# Altium integrated library o149086v243 Altium_WE-XTAL (rev19c).IntLib: 299 symbols (part 2 of 5)
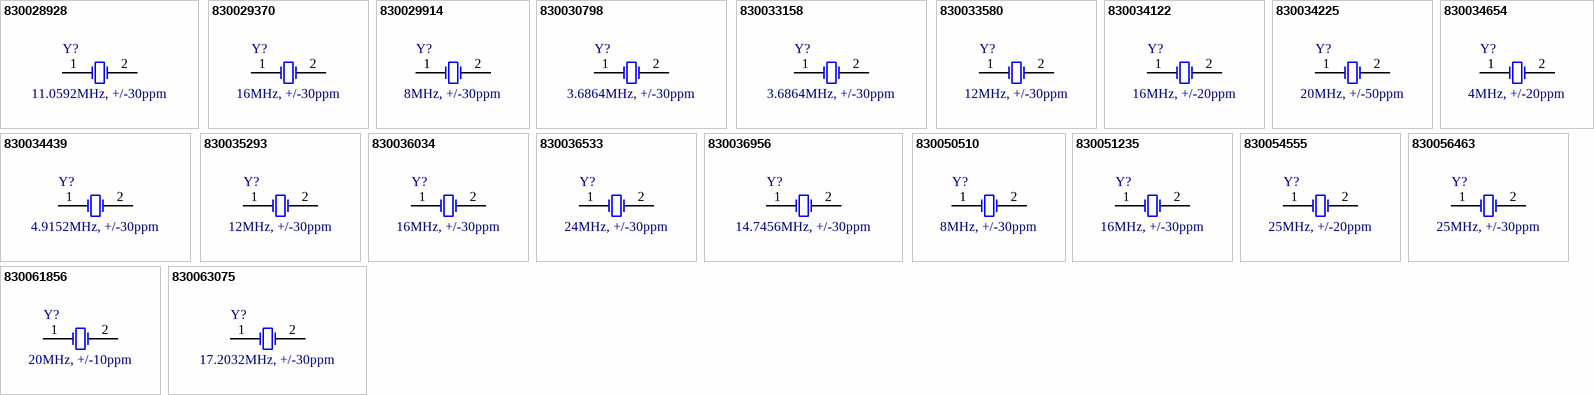
[diagram p17: symbols 830028928 to 830063075]

## 830029370
designator Y?, comment 16MHz, +/-30ppm
WE-XTAL Quartz Crystal, SMT, HC49/4HSMX, 16MHz, +/-30ppm; Part Number: 830029370; Frequency Stability: +/-50ppm; Load Capacitance: 18pF; ComponentLink1Description: Manufacturer; ComponentLink1URL: http://www.we-online.de; ComponentLink2Description: Datasheet; ComponentLink2URL: https://katalog.we-online.com/pbs/datasheet/830029370.pdf; Operating Temperature: -20 to +70degC; Packaging: Tape and Reel; Published Date: November 2019; Size: HC49/4HSMX; Frequency: 16MHz; Frequency Tolerance: +/-30ppm; Mounting Technology: SMT; Publisher: Wurth Elektronik
footprint WE-XTAL_HC49/4HSMX
pins: 1 OSC1, 2 OSC2

## 830029914
designator Y?, comment 8MHz, +/-30ppm
WE-XTAL Quartz Crystal, SMT, HC49/4HSMX, 8MHz, +/-30ppm; Part Number: 830029914; Frequency Stability: +/-50ppm; Load Capacitance: 16pF; ComponentLink1Description: Manufacturer; ComponentLink1URL: http://www.we-online.de; ComponentLink2Description: Datasheet; ComponentLink2URL: https://katalog.we-online.com/pbs/datasheet/830029914.pdf; Operating Temperature: -40 to +85degC; Packaging: Tape and Reel; Published Date: November 2019; Size: HC49/4HSMX; Frequency: 8MHz; Frequency Tolerance: +/-30ppm; Mounting Technology: SMT; Publisher: Wurth Elektronik
footprint WE-XTAL_HC49/4HSMX
pins: 1 OSC1, 2 OSC2

## 830030798
designator Y?, comment 3.6864MHz, +/-30ppm
WE-XTAL Quartz Crystal, SMT, HC49/4HSMX, 3.6864MHz, +/-30ppm; Part Number: 830030798; Frequency Stability: +/-50ppm; Load Capacitance: 16pF; ComponentLink1Description: Manufacturer; ComponentLink1URL: http://www.we-online.de; ComponentLink2Description: Datasheet; ComponentLink2URL: https://katalog.we-online.com/pbs/datasheet/830030798.pdf; Operating Temperature: -40 to +85degC; Packaging: Tape and Reel; Published Date: November 2019; Size: HC49/4HSMX; Frequency: 3.6864MHz; Frequency Tolerance: +/-30ppm; Mounting Technology: SMT; Publisher: Wurth Elektronik
footprint WE-XTAL_HC49/4HSMX
pins: 1 OSC1, 2 OSC2

## 830033158
designator Y?, comment 3.6864MHz, +/-30ppm
WE-XTAL Quartz Crystal, SMT, HC49/4HSMX, 3.6864MHz, +/-30ppm; Part Number: 830033158; Frequency Stability: +/-50ppm; Load Capacitance: 18pF; ComponentLink1Description: Manufacturer; ComponentLink1URL: http://www.we-online.de; ComponentLink2Description: Datasheet; ComponentLink2URL: https://katalog.we-online.com/pbs/datasheet/830033158.pdf; Operating Temperature: -20 to +70degC; Packaging: Tape and Reel; Published Date: November 2019; Size: HC49/4HSMX; Frequency: 3.6864MHz; Frequency Tolerance: +/-30ppm; Mounting Technology: SMT; Publisher: Wurth Elektronik
footprint WE-XTAL_HC49/4HSMX
pins: 1 OSC1, 2 OSC2

## 830033580
designator Y?, comment 12MHz, +/-30ppm
WE-XTAL Quartz Crystal, SMT, HC49/4HSMX, 12MHz, +/-30ppm; Part Number: 830033580; Frequency Stability: +/-50ppm; Load Capacitance: 18pF; ComponentLink1Description: Manufacturer; ComponentLink1URL: http://www.we-online.de; ComponentLink2Description: Datasheet; ComponentLink2URL: https://katalog.we-online.com/pbs/datasheet/830033580.pdf; Operating Temperature: -20 to +70degC; Packaging: Tape and Reel; Published Date: November 2019; Size: HC49/4HSMX; Frequency: 12MHz; Frequency Tolerance: +/-30ppm; Mounting Technology: SMT; Publisher: Wurth Elektronik
footprint WE-XTAL_HC49/4HSMX
pins: 1 OSC1, 2 OSC2

## 830034122
designator Y?, comment 16MHz, +/-20ppm
WE-XTAL Quartz Crystal, SMT, HC49/4HSMX, 16MHz, +/-20ppm; Part Number: 830034122; Load Capacitance: 12pF; ComponentLink1Description: Manufacturer; ComponentLink1URL: http://www.we-online.de; ComponentLink2Description: Datasheet; ComponentLink2URL: https://katalog.we-online.com/pbs/datasheet/830034122.pdf; Operating Temperature: -20 to +70degC; Packaging: Tape and Reel; Published Date: November 2019; Size: HC49/4HSMX; Frequency Stability: +/-20ppm; Frequency: 16MHz; Frequency Tolerance: +/-20ppm; Mounting Technology: SMT; Publisher: Wurth Elektronik
footprint WE-XTAL_HC49/4HSMX
pins: 1 OSC1, 2 OSC2

## 830034225
designator Y?, comment 20MHz, +/-50ppm
WE-XTAL Quartz Crystal, SMT, HC49/4HSMX, 20MHz, +/-50ppm; Part Number: 830034225; Load Capacitance: 16pF; ComponentLink1Description: Manufacturer; ComponentLink1URL: http://www.we-online.de; ComponentLink2Description: Datasheet; ComponentLink2URL: https://katalog.we-online.com/pbs/datasheet/830034225.pdf; Operating Temperature: -30 to +80degC; Packaging: Tape and Reel; Published Date: November 2019; Size: HC49/4HSMX; Frequency Stability: +/-50ppm; Frequency: 20MHz; Frequency Tolerance: +/-50ppm; Mounting Technology: SMT; Publisher: Wurth Elektronik
footprint WE-XTAL_HC49/4HSMX
pins: 1 OSC1, 2 OSC2

## 830034439
designator Y?, comment 4.9152MHz, +/-30ppm
WE-XTAL Quartz Crystal, SMT, HC49/4HSMX, 4.9152MHz, +/-30ppm; Part Number: 830034439; Frequency Stability: +/-50ppm; Load Capacitance: 16pF; ComponentLink1Description: Manufacturer; ComponentLink1URL: http://www.we-online.de; ComponentLink2Description: Datasheet; ComponentLink2URL: https://katalog.we-online.com/pbs/datasheet/830034439.pdf; Operating Temperature: -20 to +70degC; Packaging: Tape and Reel; Published Date: November 2019; Size: HC49/4HSMX; Frequency: 4.9152MHz; Frequency Tolerance: +/-30ppm; Mounting Technology: SMT; Publisher: Wurth Elektronik
footprint WE-XTAL_HC49/4HSMX
pins: 1 OSC1, 2 OSC2

## 830034654
designator Y?, comment 4MHz, +/-20ppm
WE-XTAL Quartz Crystal, SMT, HC49/4HSMX, 4MHz, +/-20ppm; Part Number: 830034654; Frequency Stability: +/-50ppm; Load Capacitance: 18pF; ComponentLink1Description: Manufacturer; ComponentLink1URL: http://www.we-online.de; ComponentLink2Description: Datasheet; ComponentLink2URL: https://katalog.we-online.com/pbs/datasheet/830034654.pdf; Operating Temperature: -20 to +70degC; Packaging: Tape and Reel; Published Date: November 2019; Size: HC49/4HSMX; Frequency: 4MHz; Frequency Tolerance: +/-20ppm; Mounting Technology: SMT; Publisher: Wurth Elektronik
footprint WE-XTAL_HC49/4HSMX
pins: 1 OSC1, 2 OSC2

## 830035293
designator Y?, comment 12MHz, +/-30ppm
WE-XTAL Quartz Crystal, SMT, HC49/4HSMX, 12MHz, +/-30ppm; Part Number: 830035293; Frequency Stability: +/-50ppm; Load Capacitance: 16pF; ComponentLink1Description: Manufacturer; ComponentLink1URL: http://www.we-online.de; ComponentLink2Description: Datasheet; ComponentLink2URL: https://katalog.we-online.com/pbs/datasheet/830035293.pdf; Operating Temperature: -40 to +85degC; Packaging: Tape and Reel; Published Date: November 2019; Size: HC49/4HSMX; Frequency: 12MHz; Frequency Tolerance: +/-30ppm; Mounting Technology: SMT; Publisher: Wurth Elektronik
footprint WE-XTAL_HC49/4HSMX
pins: 1 OSC1, 2 OSC2

## 830036034
designator Y?, comment 16MHz, +/-30ppm
WE-XTAL Quartz Crystal, SMT, HC49/4HSMX, 16MHz, +/-30ppm; Part Number: 830036034; Frequency Stability: +/-50ppm; Load Capacitance: 16pF; ComponentLink1Description: Manufacturer; ComponentLink1URL: http://www.we-online.de; ComponentLink2Description: Datasheet; ComponentLink2URL: https://katalog.we-online.com/pbs/datasheet/830036034.pdf; Operating Temperature: -40 to +85degC; Packaging: Tape and Reel; Published Date: November 2019; Size: HC49/4HSMX; Frequency: 16MHz; Frequency Tolerance: +/-30ppm; Mounting Technology: SMT; Publisher: Wurth Elektronik
footprint WE-XTAL_HC49/4HSMX
pins: 1 OSC1, 2 OSC2

## 830036533
designator Y?, comment 24MHz, +/-30ppm
WE-XTAL Quartz Crystal, SMT, HC49/4HSMX, 24MHz, +/-30ppm; Part Number: 830036533; Frequency Stability: +/-50ppm; Load Capacitance: 18pF; ComponentLink1Description: Manufacturer; ComponentLink1URL: http://www.we-online.de; ComponentLink2Description: Datasheet; ComponentLink2URL: https://katalog.we-online.com/pbs/datasheet/830036533.pdf; Operating Temperature: -40 to +85degC; Packaging: Tape and Reel; Published Date: November 2019; Size: HC49/4HSMX; Frequency: 24MHz; Frequency Tolerance: +/-30ppm; Mounting Technology: SMT; Publisher: Wurth Elektronik
footprint WE-XTAL_HC49/4HSMX
pins: 1 OSC1, 2 OSC2

## 830036956
designator Y?, comment 14.7456MHz, +/-30ppm
WE-XTAL Quartz Crystal, SMT, HC49/4HSMX, 14.7456MHz, +/-30ppm; Part Number: 830036956; Frequency Stability: +/-50ppm; Load Capacitance: 16pF; ComponentLink1Description: Manufacturer; ComponentLink1URL: http://www.we-online.de; ComponentLink2Description: Datasheet; ComponentLink2URL: https://katalog.we-online.com/pbs/datasheet/830036956.pdf; Operating Temperature: -20 to +70degC; Packaging: Tape and Reel; Published Date: November 2019; Size: HC49/4HSMX; Frequency: 14.7456MHz; Frequency Tolerance: +/-30ppm; Mounting Technology: SMT; Publisher: Wurth Elektronik
footprint WE-XTAL_HC49/4HSMX
pins: 1 OSC1, 2 OSC2

## 830050510
designator Y?, comment 8MHz, +/-30ppm
WE-XTAL Quartz Crystal, SMT, HC49/4HSMX, 8MHz, +/-30ppm; Part Number: 830050510; Frequency Stability: +/-50ppm; Load Capacitance: 18pF; ComponentLink1Description: Manufacturer; ComponentLink1URL: http://www.we-online.de; ComponentLink2Description: Datasheet; ComponentLink2URL: https://katalog.we-online.com/pbs/datasheet/830050510.pdf; Operating Temperature: -40 to +85degC; Packaging: Tape and Reel; Published Date: November 2019; Size: HC49/4HSMX; Frequency: 8MHz; Frequency Tolerance: +/-30ppm; Mounting Technology: SMT; Publisher: Wurth Elektronik
footprint WE-XTAL_HC49/4HSMX
pins: 1 OSC1, 2 OSC2

## 830051235
designator Y?, comment 16MHz, +/-30ppm
WE-XTAL Quartz Crystal, SMT, HC49/4HSMX, 16MHz, +/-30ppm; Part Number: 830051235; Frequency Stability: +/-50ppm; Load Capacitance: 18pF; ComponentLink1Description: Manufacturer; ComponentLink1URL: http://www.we-online.de; ComponentLink2Description: Datasheet; ComponentLink2URL: https://katalog.we-online.com/pbs/datasheet/830051235.pdf; Operating Temperature: -40 to +85degC; Packaging: Tape and Reel; Published Date: November 2019; Size: HC49/4HSMX; Frequency: 16MHz; Frequency Tolerance: +/-30ppm; Mounting Technology: SMT; Publisher: Wurth Elektronik
footprint WE-XTAL_HC49/4HSMX
pins: 1 OSC1, 2 OSC2

## 830054555
designator Y?, comment 25MHz, +/-20ppm
WE-XTAL Quartz Crystal, SMT, HC49/4HSMX, 25MHz, +/-20ppm; Part Number: 830054555; Load Capacitance: 20pF; ComponentLink1Description: Manufacturer; ComponentLink1URL: http://www.we-online.de; ComponentLink2Description: Datasheet; ComponentLink2URL: https://katalog.we-online.com/pbs/datasheet/830054555.pdf; Operating Temperature: -40 to +85degC; Packaging: Tape and Reel; Published Date: November 2019; Size: HC49/4HSMX; Frequency Stability: +/-20ppm; Frequency: 25MHz; Frequency Tolerance: +/-20ppm; Mounting Technology: SMT; Publisher: Wurth Elektronik
footprint WE-XTAL_HC49/4HSMX
pins: 1 OSC1, 2 OSC2

## 830056463
designator Y?, comment 25MHz, +/-30ppm
WE-XTAL Quartz Crystal, SMT, HC49/4HSMX, 25MHz, +/-30ppm; Part Number: 830056463; Frequency Stability: +/-50ppm; Load Capacitance: 18pF; ComponentLink1Description: Manufacturer; ComponentLink1URL: http://www.we-online.de; ComponentLink2Description: Datasheet; ComponentLink2URL: https://katalog.we-online.com/pbs/datasheet/830056463.pdf; Operating Temperature: -40 to +85degC; Packaging: Tape and Reel; Published Date: November 2019; Size: HC49/4HSMX; Frequency: 25MHz; Frequency Tolerance: +/-30ppm; Mounting Technology: SMT; Publisher: Wurth Elektronik
footprint WE-XTAL_HC49/4HSMX
pins: 1 OSC1, 2 OSC2

## 830061856
designator Y?, comment 20MHz, +/-10ppm
WE-XTAL Quartz Crystal, SMT, HC49/4HSMX, 20MHz, +/-10ppm; Part Number: 830061856; Load Capacitance: 18pF; ComponentLink1Description: Manufacturer; ComponentLink1URL: http://www.we-online.de; ComponentLink2Description: Datasheet; ComponentLink2URL: https://katalog.we-online.com/pbs/datasheet/830061856.pdf; Operating Temperature: -20 to +70degC; Packaging: Tape and Reel; Published Date: November 2019; Size: HC49/4HSMX; Frequency Stability: +/-10ppm; Frequency: 20MHz; Frequency Tolerance: +/-10ppm; Mounting Technology: SMT; Publisher: Wurth Elektronik
footprint WE-XTAL_HC49/4HSMX
pins: 1 OSC1, 2 OSC2

## 830063075
designator Y?, comment 17.2032MHz, +/-30ppm
WE-XTAL Quartz Crystal, SMT, HC49/4HSMX, 17.2032MHz, +/-30ppm; Part Number: 830063075; Frequency Stability: +/-50ppm; Load Capacitance: 22pF; ComponentLink1Description: Manufacturer; ComponentLink1URL: http://www.we-online.de; ComponentLink2Description: Datasheet; ComponentLink2URL: https://katalog.we-online.com/pbs/datasheet/830063075.pdf; Operating Temperature: -40 to +85degC; Packaging: Tape and Reel; Published Date: November 2019; Size: HC49/4HSMX; Frequency: 17.2032MHz; Frequency Tolerance: +/-30ppm; Mounting Technology: SMT; Publisher: Wurth Elektronik
footprint WE-XTAL_HC49/4HSMX
pins: 1 OSC1, 2 OSC2


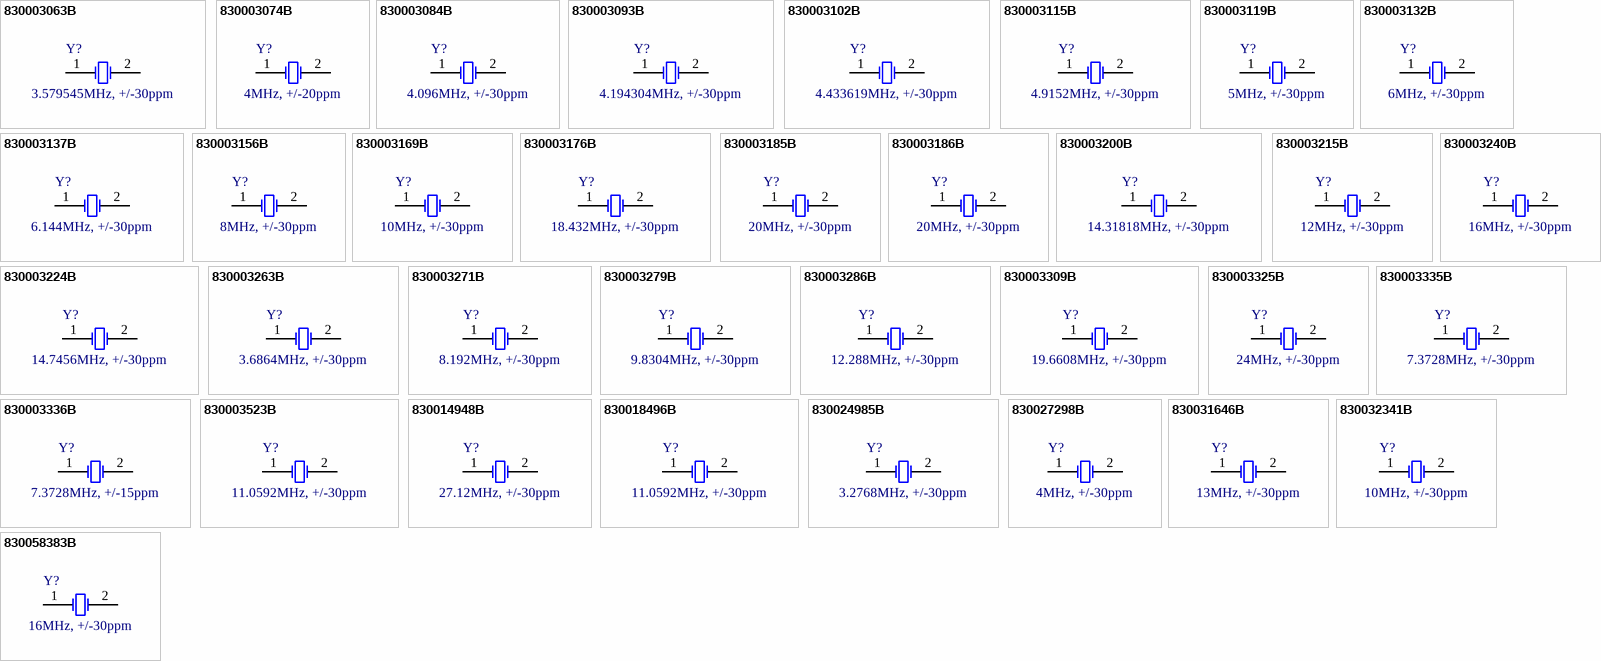
[diagram p5: symbols 830003063B to 830058383B]

## 830003063B
designator Y?, comment 3.579545MHz, +/-30ppm
WE-XTAL Quartz Crystal, THT, HC49/4H, 3.579545MHz, +/-30ppm; Part Number: 830003063B; Frequency Stability: +/-50ppm; Load Capacitance: 20pF; ComponentLink1Description: Manufacturer; ComponentLink1URL: http://www.we-online.de; ComponentLink2Description: Datasheet; ComponentLink2URL: https://katalog.we-online.com/pbs/datasheet/830003063B.pdf; Operating Temperature: -20 to +70degC; Packaging: Bulk; Published Date: November 2019; Size: HC49/4H; Frequency: 3.579545MHz; Frequency Tolerance: +/-30ppm; Mounting Technology: THT; Publisher: Wurth Elektronik
footprint WE-XTAL_HC49/4H
pins: 1 OSC1, 2 OSC2

## 830003074B
designator Y?, comment 4MHz, +/-20ppm
WE-XTAL Quartz Crystal, THT, HC49/4H, 4MHz, +/-20ppm; Part Number: 830003074B; Frequency Stability: +/-50ppm; Load Capacitance: 30pF; ComponentLink1Description: Manufacturer; ComponentLink1URL: http://www.we-online.de; ComponentLink2Description: Datasheet; ComponentLink2URL: https://katalog.we-online.com/pbs/datasheet/830003074B.pdf; Operating Temperature: -10 to +60degC; Packaging: Bulk; Published Date: November 2019; Size: HC49/4H; Frequency: 4MHz; Frequency Tolerance: +/-20ppm; Mounting Technology: THT; Publisher: Wurth Elektronik
footprint WE-XTAL_HC49/4H
pins: 1 OSC1, 2 OSC2

## 830003084B
designator Y?, comment 4.096MHz, +/-30ppm
WE-XTAL Quartz Crystal, THT, HC49/4H, 4.096MHz, +/-30ppm; Part Number: 830003084B; Frequency Stability: +/-50ppm; Load Capacitance: 30pF; ComponentLink1Description: Manufacturer; ComponentLink1URL: http://www.we-online.de; ComponentLink2Description: Datasheet; ComponentLink2URL: https://katalog.we-online.com/pbs/datasheet/830003084B.pdf; Operating Temperature: -10 to +60degC; Packaging: Bulk; Published Date: November 2019; Size: HC49/4H; Frequency: 4.096MHz; Frequency Tolerance: +/-30ppm; Mounting Technology: THT; Publisher: Wurth Elektronik
footprint WE-XTAL_HC49/4H
pins: 1 OSC1, 2 OSC2

## 830003093B
designator Y?, comment 4.194304MHz, +/-30ppm
WE-XTAL Quartz Crystal, THT, HC49/4H, 4.194304MHz, +/-30ppm; Part Number: 830003093B; Frequency Stability: +/-50ppm; Load Capacitance: 12pF; ComponentLink1Description: Manufacturer; ComponentLink1URL: http://www.we-online.de; ComponentLink2Description: Datasheet; ComponentLink2URL: https://katalog.we-online.com/pbs/datasheet/830003093B.pdf; Operating Temperature: -10 to +60degC; Packaging: Bulk; Published Date: November 2019; Size: HC49/4H; Frequency: 4.194304MHz; Frequency Tolerance: +/-30ppm; Mounting Technology: THT; Publisher: Wurth Elektronik
footprint WE-XTAL_HC49/4H
pins: 1 OSC1, 2 OSC2

## 830003102B
designator Y?, comment 4.433619MHz, +/-30ppm
WE-XTAL Quartz Crystal, THT, HC49/4H, 4.433619MHz, +/-30ppm; Part Number: 830003102B; Frequency Stability: +/-50ppm; Load Capacitance: 20pF; ComponentLink1Description: Manufacturer; ComponentLink1URL: http://www.we-online.de; ComponentLink2Description: Datasheet; ComponentLink2URL: https://katalog.we-online.com/pbs/datasheet/830003102B.pdf; Operating Temperature: -10 to +60degC; Packaging: Bulk; Published Date: November 2019; Size: HC49/4H; Frequency: 4.433619MHz; Frequency Tolerance: +/-30ppm; Mounting Technology: THT; Publisher: Wurth Elektronik
footprint WE-XTAL_HC49/4H
pins: 1 OSC1, 2 OSC2

## 830003115B
designator Y?, comment 4.9152MHz, +/-30ppm
WE-XTAL Quartz Crystal, THT, HC49/4H, 4.9152MHz, +/-30ppm; Part Number: 830003115B; Frequency Stability: +/-50ppm; Load Capacitance: 30pF; ComponentLink1Description: Manufacturer; ComponentLink1URL: http://www.we-online.de; ComponentLink2Description: Datasheet; ComponentLink2URL: https://katalog.we-online.com/pbs/datasheet/830003115B.pdf; Operating Temperature: -20 to +70degC; Packaging: Bulk; Published Date: November 2019; Size: HC49/4H; Frequency: 4.9152MHz; Frequency Tolerance: +/-30ppm; Mounting Technology: THT; Publisher: Wurth Elektronik
footprint WE-XTAL_HC49/4H
pins: 1 OSC1, 2 OSC2

## 830003119B
designator Y?, comment 5MHz, +/-30ppm
WE-XTAL Quartz Crystal, THT, HC49/4H, 5MHz, +/-30ppm; Part Number: 830003119B; Frequency Stability: +/-50ppm; Load Capacitance: 30pF; ComponentLink1Description: Manufacturer; ComponentLink1URL: http://www.we-online.de; ComponentLink2Description: Datasheet; ComponentLink2URL: https://katalog.we-online.com/pbs/datasheet/830003119B.pdf; Operating Temperature: -10 to +60degC; Packaging: Bulk; Published Date: November 2019; Size: HC49/4H; Frequency: 5MHz; Frequency Tolerance: +/-30ppm; Mounting Technology: THT; Publisher: Wurth Elektronik
footprint WE-XTAL_HC49/4H
pins: 1 OSC1, 2 OSC2

## 830003132B
designator Y?, comment 6MHz, +/-30ppm
WE-XTAL Quartz Crystal, THT, HC49/4H, 6MHz, +/-30ppm; Part Number: 830003132B; Frequency Stability: +/-50ppm; Load Capacitance: 30pF; ComponentLink1Description: Manufacturer; ComponentLink1URL: http://www.we-online.de; ComponentLink2Description: Datasheet; ComponentLink2URL: https://katalog.we-online.com/pbs/datasheet/830003132B.pdf; Operating Temperature: -10 to +60degC; Packaging: Bulk; Published Date: November 2019; Size: HC49/4H; Frequency: 6MHz; Frequency Tolerance: +/-30ppm; Mounting Technology: THT; Publisher: Wurth Elektronik
footprint WE-XTAL_HC49/4H
pins: 1 OSC1, 2 OSC2

## 830003137B
designator Y?, comment 6.144MHz, +/-30ppm
WE-XTAL Quartz Crystal, THT, HC49/4H, 6.144MHz, +/-30ppm; Part Number: 830003137B; Frequency Stability: +/-50ppm; Load Capacitance: 30pF; ComponentLink1Description: Manufacturer; ComponentLink1URL: http://www.we-online.de; ComponentLink2Description: Datasheet; ComponentLink2URL: https://katalog.we-online.com/pbs/datasheet/830003137B.pdf; Operating Temperature: -10 to +60degC; Packaging: Bulk; Published Date: November 2019; Size: HC49/4H; Frequency: 6.144MHz; Frequency Tolerance: +/-30ppm; Mounting Technology: THT; Publisher: Wurth Elektronik
footprint WE-XTAL_HC49/4H
pins: 1 OSC1, 2 OSC2

## 830003156B
designator Y?, comment 8MHz, +/-30ppm
WE-XTAL Quartz Crystal, THT, HC49/4H, 8MHz, +/-30ppm; Part Number: 830003156B; Frequency Stability: +/-50ppm; Load Capacitance: 30pF; ComponentLink1Description: Manufacturer; ComponentLink1URL: http://www.we-online.de; ComponentLink2Description: Datasheet; ComponentLink2URL: https://katalog.we-online.com/pbs/datasheet/830003156B.pdf; Operating Temperature: -20 to +70degC; Packaging: Bulk; Published Date: November 2019; Size: HC49/4H; Frequency: 8MHz; Frequency Tolerance: +/-30ppm; Mounting Technology: THT; Publisher: Wurth Elektronik
footprint WE-XTAL_HC49/4H
pins: 1 OSC1, 2 OSC2

## 830003169B
designator Y?, comment 10MHz, +/-30ppm
WE-XTAL Quartz Crystal, THT, HC49/4H, 10MHz, +/-30ppm; Part Number: 830003169B; Frequency Stability: +/-50ppm; Load Capacitance: 30pF; ComponentLink1Description: Manufacturer; ComponentLink1URL: http://www.we-online.de; ComponentLink2Description: Datasheet; ComponentLink2URL: https://katalog.we-online.com/pbs/datasheet/830003169B.pdf; Operating Temperature: -20 to +70degC; Packaging: Bulk; Published Date: November 2019; Size: HC49/4H; Frequency: 10MHz; Frequency Tolerance: +/-30ppm; Mounting Technology: THT; Publisher: Wurth Elektronik
footprint WE-XTAL_HC49/4H
pins: 1 OSC1, 2 OSC2

## 830003176B
designator Y?, comment 18.432MHz, +/-30ppm
WE-XTAL Quartz Crystal, THT, HC49/4H, 18.432MHz, +/-30ppm; Part Number: 830003176B; Frequency Stability: +/-50ppm; Load Capacitance: 30pF; ComponentLink1Description: Manufacturer; ComponentLink1URL: http://www.we-online.de; ComponentLink2Description: Datasheet; ComponentLink2URL: https://katalog.we-online.com/pbs/datasheet/830003176B.pdf; Operating Temperature: -20 to +70degC; Packaging: Bulk; Published Date: November 2019; Size: HC49/4H; Frequency: 18.432MHz; Frequency Tolerance: +/-30ppm; Mounting Technology: THT; Publisher: Wurth Elektronik
footprint WE-XTAL_HC49/4H
pins: 1 OSC1, 2 OSC2

## 830003185B
designator Y?, comment 20MHz, +/-30ppm
WE-XTAL Quartz Crystal, THT, HC49/4H, 20MHz, +/-30ppm; Part Number: 830003185B; Frequency Stability: +/-50ppm; Load Capacitance: 12pF; ComponentLink1Description: Manufacturer; ComponentLink1URL: http://www.we-online.de; ComponentLink2Description: Datasheet; ComponentLink2URL: https://katalog.we-online.com/pbs/datasheet/830003185B.pdf; Operating Temperature: -20 to +70degC; Packaging: Bulk; Published Date: November 2019; Size: HC49/4H; Frequency: 20MHz; Frequency Tolerance: +/-30ppm; Mounting Technology: THT; Publisher: Wurth Elektronik
footprint WE-XTAL_HC49/4H
pins: 1 OSC1, 2 OSC2

## 830003186B
designator Y?, comment 20MHz, +/-30ppm
WE-XTAL Quartz Crystal, THT, HC49/4H, 20MHz, +/-30ppm; Part Number: 830003186B; Frequency Stability: +/-50ppm; Load Capacitance: 20pF; ComponentLink1Description: Manufacturer; ComponentLink1URL: http://www.we-online.de; ComponentLink2Description: Datasheet; ComponentLink2URL: https://katalog.we-online.com/pbs/datasheet/830003186B.pdf; Operating Temperature: -10 to +60degC; Packaging: Bulk; Published Date: November 2019; Size: HC49/4H; Frequency: 20MHz; Frequency Tolerance: +/-30ppm; Mounting Technology: THT; Publisher: Wurth Elektronik
footprint WE-XTAL_HC49/4H
pins: 1 OSC1, 2 OSC2

## 830003200B
designator Y?, comment 14.31818MHz, +/-30ppm
WE-XTAL Quartz Crystal, THT, HC49/4H, 14.31818MHz, +/-30ppm; Part Number: 830003200B; Frequency Stability: +/-50ppm; Load Capacitance: 30pF; ComponentLink1Description: Manufacturer; ComponentLink1URL: http://www.we-online.de; ComponentLink2Description: Datasheet; ComponentLink2URL: https://katalog.we-online.com/pbs/datasheet/830003200B.pdf; Operating Temperature: -20 to +70degC; Packaging: Bulk; Published Date: November 2019; Size: HC49/4H; Frequency: 14.31818MHz; Frequency Tolerance: +/-30ppm; Mounting Technology: THT; Publisher: Wurth Elektronik
footprint WE-XTAL_HC49/4H
pins: 1 OSC1, 2 OSC2

## 830003215B
designator Y?, comment 12MHz, +/-30ppm
WE-XTAL Quartz Crystal, THT, HC49/4H, 12MHz, +/-30ppm; Part Number: 830003215B; Frequency Stability: +/-50ppm; Load Capacitance: 30pF; ComponentLink1Description: Manufacturer; ComponentLink1URL: http://www.we-online.de; ComponentLink2Description: Datasheet; ComponentLink2URL: https://katalog.we-online.com/pbs/datasheet/830003215B.pdf; Operating Temperature: -20 to +70degC; Packaging: Bulk; Published Date: November 2019; Size: HC49/4H; Frequency: 12MHz; Frequency Tolerance: +/-30ppm; Mounting Technology: THT; Publisher: Wurth Elektronik
footprint WE-XTAL_HC49/4H
pins: 1 OSC1, 2 OSC2

## 830003224B
designator Y?, comment 14.7456MHz, +/-30ppm
WE-XTAL Quartz Crystal, THT, HC49/4H, 14.7456MHz, +/-30ppm; Part Number: 830003224B; Frequency Stability: +/-50ppm; Load Capacitance: 30pF; ComponentLink1Description: Manufacturer; ComponentLink1URL: http://www.we-online.de; ComponentLink2Description: Datasheet; ComponentLink2URL: https://katalog.we-online.com/pbs/datasheet/830003224B.pdf; Operating Temperature: -10 to +60degC; Packaging: Bulk; Published Date: November 2019; Size: HC49/4H; Frequency: 14.7456MHz; Frequency Tolerance: +/-30ppm; Mounting Technology: THT; Publisher: Wurth Elektronik
footprint WE-XTAL_HC49/4H
pins: 1 OSC1, 2 OSC2

## 830003240B
designator Y?, comment 16MHz, +/-30ppm
WE-XTAL Quartz Crystal, THT, HC49/4H, 16MHz, +/-30ppm; Part Number: 830003240B; Frequency Stability: +/-50ppm; Load Capacitance: 30pF; ComponentLink1Description: Manufacturer; ComponentLink1URL: http://www.we-online.de; ComponentLink2Description: Datasheet; ComponentLink2URL: https://katalog.we-online.com/pbs/datasheet/830003240B.pdf; Operating Temperature: -20 to +70degC; Packaging: Bulk; Published Date: November 2019; Size: HC49/4H; Frequency: 16MHz; Frequency Tolerance: +/-30ppm; Mounting Technology: THT; Publisher: Wurth Elektronik
footprint WE-XTAL_HC49/4H
pins: 1 OSC1, 2 OSC2

## 830003263B
designator Y?, comment 3.6864MHz, +/-30ppm
WE-XTAL Quartz Crystal, THT, HC49/4H, 3.6864MHz, +/-30ppm; Part Number: 830003263B; Frequency Stability: +/-50ppm; Load Capacitance: 30pF; ComponentLink1Description: Manufacturer; ComponentLink1URL: http://www.we-online.de; ComponentLink2Description: Datasheet; ComponentLink2URL: https://katalog.we-online.com/pbs/datasheet/830003263B.pdf; Operating Temperature: -20 to +70degC; Packaging: Bulk; Published Date: November 2019; Size: HC49/4H; Frequency: 3.6864MHz; Frequency Tolerance: +/-30ppm; Mounting Technology: THT; Publisher: Wurth Elektronik
footprint WE-XTAL_HC49/4H
pins: 1 OSC1, 2 OSC2

## 830003271B
designator Y?, comment 8.192MHz, +/-30ppm
WE-XTAL Quartz Crystal, THT, HC49/4H, 8.192MHz, +/-30ppm; Part Number: 830003271B; Frequency Stability: +/-50ppm; Load Capacitance: 30pF; ComponentLink1Description: Manufacturer; ComponentLink1URL: http://www.we-online.de; ComponentLink2Description: Datasheet; ComponentLink2URL: https://katalog.we-online.com/pbs/datasheet/830003271B.pdf; Operating Temperature: -10 to +60degC; Packaging: Bulk; Published Date: November 2019; Size: HC49/4H; Frequency: 8.192MHz; Frequency Tolerance: +/-30ppm; Mounting Technology: THT; Publisher: Wurth Elektronik
footprint WE-XTAL_HC49/4H
pins: 1 OSC1, 2 OSC2

## 830003279B
designator Y?, comment 9.8304MHz, +/-30ppm
WE-XTAL Quartz Crystal, THT, HC49/4H, 9.8304MHz, +/-30ppm; Part Number: 830003279B; Frequency Stability: +/-50ppm; Load Capacitance: 30pF; ComponentLink1Description: Manufacturer; ComponentLink1URL: http://www.we-online.de; ComponentLink2Description: Datasheet; ComponentLink2URL: https://katalog.we-online.com/pbs/datasheet/830003279B.pdf; Operating Temperature: -10 to +60degC; Packaging: Bulk; Published Date: November 2019; Size: HC49/4H; Frequency: 9.8304MHz; Frequency Tolerance: +/-30ppm; Mounting Technology: THT; Publisher: Wurth Elektronik
footprint WE-XTAL_HC49/4H
pins: 1 OSC1, 2 OSC2

## 830003286B
designator Y?, comment 12.288MHz, +/-30ppm
WE-XTAL Quartz Crystal, THT, HC49/4H, 12.288MHz, +/-30ppm; Part Number: 830003286B; Frequency Stability: +/-50ppm; Load Capacitance: 30pF; ComponentLink1Description: Manufacturer; ComponentLink1URL: http://www.we-online.de; ComponentLink2Description: Datasheet; ComponentLink2URL: https://katalog.we-online.com/pbs/datasheet/830003286B.pdf; Operating Temperature: -10 to +60degC; Packaging: Bulk; Published Date: November 2019; Size: HC49/4H; Frequency: 12.288MHz; Frequency Tolerance: +/-30ppm; Mounting Technology: THT; Publisher: Wurth Elektronik
footprint WE-XTAL_HC49/4H
pins: 1 OSC1, 2 OSC2

## 830003309B
designator Y?, comment 19.6608MHz, +/-30ppm
WE-XTAL Quartz Crystal, THT, HC49/4H, 19.6608MHz, +/-30ppm; Part Number: 830003309B; Frequency Stability: +/-50ppm; Load Capacitance: 30pF; ComponentLink1Description: Manufacturer; ComponentLink1URL: http://www.we-online.de; ComponentLink2Description: Datasheet; ComponentLink2URL: https://katalog.we-online.com/pbs/datasheet/830003309B.pdf; Operating Temperature: -10 to +60degC; Packaging: Bulk; Published Date: November 2019; Size: HC49/4H; Frequency: 19.6608MHz; Frequency Tolerance: +/-30ppm; Mounting Technology: THT; Publisher: Wurth Elektronik
footprint WE-XTAL_HC49/4H
pins: 1 OSC1, 2 OSC2

## 830003325B
designator Y?, comment 24MHz, +/-30ppm
WE-XTAL Quartz Crystal, THT, HC49/4H, 24MHz, +/-30ppm; Part Number: 830003325B; Frequency Stability: +/-50ppm; Load Capacitance: 30pF; ComponentLink1Description: Manufacturer; ComponentLink1URL: http://www.we-online.de; ComponentLink2Description: Datasheet; ComponentLink2URL: https://katalog.we-online.com/pbs/datasheet/830003325B.pdf; Operating Temperature: -10 to +60degC; Packaging: Bulk; Published Date: November 2019; Size: HC49/4H; Frequency: 24MHz; Frequency Tolerance: +/-30ppm; Mounting Technology: THT; Publisher: Wurth Elektronik
footprint WE-XTAL_HC49/4H
pins: 1 OSC1, 2 OSC2

## 830003335B
designator Y?, comment 7.3728MHz, +/-30ppm
WE-XTAL Quartz Crystal, THT, HC49/4H, 7.3728MHz, +/-30ppm; Part Number: 830003335B; Frequency Stability: +/-50ppm; Load Capacitance: 30pF; ComponentLink1Description: Manufacturer; ComponentLink1URL: http://www.we-online.de; ComponentLink2Description: Datasheet; ComponentLink2URL: https://katalog.we-online.com/pbs/datasheet/830003335B.pdf; Operating Temperature: -10 to +60degC; Packaging: Bulk; Published Date: November 2019; Size: HC49/4H; Frequency: 7.3728MHz; Frequency Tolerance: +/-30ppm; Mounting Technology: THT; Publisher: Wurth Elektronik
footprint WE-XTAL_HC49/4H
pins: 1 OSC1, 2 OSC2

## 830003336B
designator Y?, comment 7.3728MHz, +/-15ppm
WE-XTAL Quartz Crystal, THT, HC49/4H, 7.3728MHz, +/-15ppm; Part Number: 830003336B; Frequency Stability: +/-30ppm; Load Capacitance: 18pF; ComponentLink1Description: Manufacturer; ComponentLink1URL: http://www.we-online.de; ComponentLink2Description: Datasheet; ComponentLink2URL: https://katalog.we-online.com/pbs/datasheet/830003336B.pdf; Operating Temperature: -10 to +60degC; Packaging: Bulk; Published Date: November 2019; Size: HC49/4H; Frequency: 7.3728MHz; Frequency Tolerance: +/-15ppm; Mounting Technology: THT; Publisher: Wurth Elektronik
footprint WE-XTAL_HC49/4H
pins: 1 OSC1, 2 OSC2

## 830003523B
designator Y?, comment 11.0592MHz, +/-30ppm
WE-XTAL Quartz Crystal, THT, HC49/4H, 11.0592MHz, +/-30ppm; Part Number: 830003523B; Frequency Stability: +/-50ppm; Load Capacitance: 30pF; ComponentLink1Description: Manufacturer; ComponentLink1URL: http://www.we-online.de; ComponentLink2Description: Datasheet; ComponentLink2URL: https://katalog.we-online.com/pbs/datasheet/830003523B.pdf; Operating Temperature: -20 to +70degC; Packaging: Bulk; Published Date: November 2019; Size: HC49/4H; Frequency: 11.0592MHz; Frequency Tolerance: +/-30ppm; Mounting Technology: THT; Publisher: Wurth Elektronik
footprint WE-XTAL_HC49/4H
pins: 1 OSC1, 2 OSC2

## 830014948B
designator Y?, comment 27.12MHz, +/-30ppm
WE-XTAL Quartz Crystal, THT, HC49/4H, 27.12MHz, +/-30ppm; Part Number: 830014948B; Frequency Stability: +/-50ppm; Load Capacitance: Series Resonant; ComponentLink1Description: Manufacturer; ComponentLink1URL: http://www.we-online.de; ComponentLink2Description: Datasheet; ComponentLink2URL: https://katalog.we-online.com/pbs/datasheet/830014948B.pdf; Operating Temperature: -10 to +60degC; Packaging: Bulk; Published Date: November 2019; Size: HC49/4H; Frequency: 27.12MHz; Frequency Tolerance: +/-30ppm; Mounting Technology: THT; Publisher: Wurth Elektronik
footprint WE-XTAL_HC49/4H (Quartz Crystal, size HC49/4H, body 11.05x4.7mm)
pins: 1 OSC1, 2 OSC2

## 830018496B
designator Y?, comment 11.0592MHz, +/-30ppm
WE-XTAL Quartz Crystal, THT, HC49/4H, 11.0592MHz, +/-30ppm; Part Number: 830018496B; Frequency Stability: +/-50ppm; Load Capacitance: 18pF; ComponentLink1Description: Manufacturer; ComponentLink1URL: http://www.we-online.de; ComponentLink2Description: Datasheet; ComponentLink2URL: https://katalog.we-online.com/pbs/datasheet/830018496B.pdf; Operating Temperature: -20 to +70degC; Packaging: Bulk; Published Date: November 2019; Size: HC49/4H; Frequency: 11.0592MHz; Frequency Tolerance: +/-30ppm; Mounting Technology: THT; Publisher: Wurth Elektronik
footprint WE-XTAL_HC49/4H
pins: 1 OSC1, 2 OSC2

## 830024985B
designator Y?, comment 3.2768MHz, +/-30ppm
WE-XTAL Quartz Crystal, THT, HC49/4H, 3.2768MHz, +/-30ppm; Part Number: 830024985B; Frequency Stability: +/-50ppm; Load Capacitance: 12pF; ComponentLink1Description: Manufacturer; ComponentLink1URL: http://www.we-online.de; ComponentLink2Description: Datasheet; ComponentLink2URL: https://katalog.we-online.com/pbs/datasheet/830024985B.pdf; Operating Temperature: -10 to +60degC; Packaging: Bulk; Published Date: November 2019; Size: HC49/4H; Frequency: 3.2768MHz; Frequency Tolerance: +/-30ppm; Mounting Technology: THT; Publisher: Wurth Elektronik
footprint WE-XTAL_HC49/4H
pins: 1 OSC1, 2 OSC2

## 830027298B
designator Y?, comment 4MHz, +/-30ppm
WE-XTAL Quartz Crystal, THT, HC49/4H, 4MHz, +/-30ppm; Part Number: 830027298B; Frequency Stability: +/-50ppm; Load Capacitance: 18pF; ComponentLink1Description: Manufacturer; ComponentLink1URL: http://www.we-online.de; ComponentLink2Description: Datasheet; ComponentLink2URL: https://katalog.we-online.com/pbs/datasheet/830027298B.pdf; Operating Temperature: -20 to +70degC; Packaging: Bulk; Published Date: November 2019; Size: HC49/4H; Frequency: 4MHz; Frequency Tolerance: +/-30ppm; Mounting Technology: THT; Publisher: Wurth Elektronik
footprint WE-XTAL_HC49/4H
pins: 1 OSC1, 2 OSC2

## 830031646B
designator Y?, comment 13MHz, +/-30ppm
WE-XTAL Quartz Crystal, THT, HC49/4H, 13MHz, +/-30ppm; Part Number: 830031646B; Frequency Stability: +/-50ppm; Load Capacitance: 18pF; ComponentLink1Description: Manufacturer; ComponentLink1URL: http://www.we-online.de; ComponentLink2Description: Datasheet; ComponentLink2URL: https://katalog.we-online.com/pbs/datasheet/830031646B.pdf; Operating Temperature: -20 to +70degC; Packaging: Bulk; Published Date: November 2019; Size: HC49/4H; Frequency: 13MHz; Frequency Tolerance: +/-30ppm; Mounting Technology: THT; Publisher: Wurth Elektronik
footprint WE-XTAL_HC49/4H
pins: 1 OSC1, 2 OSC2

## 830032341B
designator Y?, comment 10MHz, +/-30ppm
WE-XTAL Quartz Crystal, THT, HC49/4H, 10MHz, +/-30ppm; Part Number: 830032341B; Frequency Stability: +/-50ppm; Load Capacitance: 18pF; ComponentLink1Description: Manufacturer; ComponentLink1URL: http://www.we-online.de; ComponentLink2Description: Datasheet; ComponentLink2URL: https://katalog.we-online.com/pbs/datasheet/830032341B.pdf; Operating Temperature: -20 to +70degC; Packaging: Bulk; Published Date: November 2019; Size: HC49/4H; Frequency: 10MHz; Frequency Tolerance: +/-30ppm; Mounting Technology: THT; Publisher: Wurth Elektronik
footprint WE-XTAL_HC49/4H
pins: 1 OSC1, 2 OSC2

## 830058383B
designator Y?, comment 16MHz, +/-30ppm
WE-XTAL Quartz Crystal, THT, HC49/4H, 16MHz, +/-30ppm; Part Number: 830058383B; Frequency Stability: +/-50ppm; Load Capacitance: 20pF; ComponentLink1Description: Manufacturer; ComponentLink1URL: http://www.we-online.de; ComponentLink2Description: Datasheet; ComponentLink2URL: https://katalog.we-online.com/pbs/datasheet/830058383B.pdf; Operating Temperature: -40 to +85degC; Packaging: Bulk; Published Date: November 2019; Size: HC49/4H; Frequency: 16MHz; Frequency Tolerance: +/-30ppm; Mounting Technology: THT; Publisher: Wurth Elektronik
footprint WE-XTAL_HC49/4H
pins: 1 OSC1, 2 OSC2


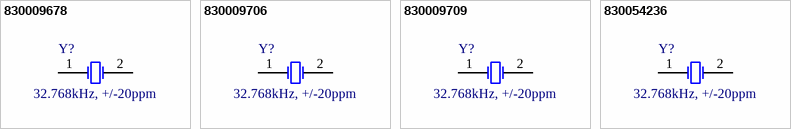
[diagram p6: symbols 830009678 to 830054236]

## 830009678
designator Y?, comment 32.768kHz, +/-20ppm
WE-XTAL Watch Crystal, SMT, CFPX-217, 32.768kHz, +/-20ppm; Part Number: 830009678; Load Capacitance: 12.5pF; ComponentLink1Description: Manufacturer; ComponentLink1URL: http://www.we-online.de; ComponentLink2Description: Datasheet; ComponentLink2URL: https://katalog.we-online.com/pbs/datasheet/830009678.pdf; Operating Temperature: -40 to +85degC; Packaging: Tape and Reel; Published Date: November 2019; Size: CFPX-217; Frequency Stability: -; Frequency: 32.768kHz; Frequency Tolerance: +/-20ppm; Mounting Technology: SMT; Publisher: Wurth Elektronik
footprint WE-XTAL_CFPX-217
pins: 1 OSC1, 2 OSC2

## 830009706
designator Y?, comment 32.768kHz, +/-20ppm
WE-XTAL Watch Crystal, SMT, CFPX-217, 32.768kHz, +/-20ppm; Part Number: 830009706; Load Capacitance: 9pF; ComponentLink1Description: Manufacturer; ComponentLink1URL: http://www.we-online.de; ComponentLink2Description: Datasheet; ComponentLink2URL: https://katalog.we-online.com/pbs/datasheet/830009706.pdf; Operating Temperature: -40 to +85degC; Packaging: Tape and Reel; Published Date: November 2019; Size: CFPX-217; Frequency Stability: -; Frequency: 32.768kHz; Frequency Tolerance: +/-20ppm; Mounting Technology: SMT; Publisher: Wurth Elektronik
footprint WE-XTAL_CFPX-217
pins: 1 OSC1, 2 OSC2

## 830009709
designator Y?, comment 32.768kHz, +/-20ppm
WE-XTAL Watch Crystal, SMT, CFPX-217, 32.768kHz, +/-20ppm; Part Number: 830009709; Load Capacitance: 7pF; ComponentLink1Description: Manufacturer; ComponentLink1URL: http://www.we-online.de; ComponentLink2Description: Datasheet; ComponentLink2URL: https://katalog.we-online.com/pbs/datasheet/830009709.pdf; Operating Temperature: -40 to +85degC; Packaging: Tape and Reel; Published Date: November 2019; Size: CFPX-217; Frequency Stability: -; Frequency: 32.768kHz; Frequency Tolerance: +/-20ppm; Mounting Technology: SMT; Publisher: Wurth Elektronik
footprint WE-XTAL_CFPX-217
pins: 1 OSC1, 2 OSC2

## 830054236
designator Y?, comment 32.768kHz, +/-20ppm
WE-XTAL Watch Crystal, SMT, CFPX-217, 32.768kHz, +/-20ppm; Part Number: 830054236; Load Capacitance: 6pF; ComponentLink1Description: Manufacturer; ComponentLink1URL: http://www.we-online.de; ComponentLink2Description: Datasheet; ComponentLink2URL: https://katalog.we-online.com/pbs/datasheet/830054236.pdf; Operating Temperature: -40 to +85degC; Packaging: Tape and Reel; Published Date: November 2019; Size: CFPX-217; Frequency Stability: -; Frequency: 32.768kHz; Frequency Tolerance: +/-20ppm; Mounting Technology: SMT; Publisher: Wurth Elektronik
footprint WE-XTAL_CFPX-217 (Quartz Crystal, size CFPX-217, body 3.2x1.5mm)
pins: 1 OSC1, 2 OSC2


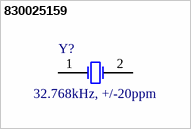
[diagram p7: symbol 830025159]

## 830025159
designator Y?, comment 32.768kHz, +/-20ppm
WE-XTAL Watch Crystal, SMT, CFPX-56, 32.768kHz, +/-20ppm; Part Number: 830025159; Load Capacitance: 12.5pF; ComponentLink1Description: Manufacturer; ComponentLink1URL: http://www.we-online.de; ComponentLink2Description: Datasheet; ComponentLink2URL: https://katalog.we-online.com/pbs/datasheet/830025159.pdf; Operating Temperature: -40 to +85degC; Packaging: Tape and Reel; Published Date: November 2019; Size: CFPX-56; Frequency Stability: -; Frequency: 32.768kHz; Frequency Tolerance: +/-20ppm; Mounting Technology: SMT; Publisher: Wurth Elektronik
footprint WE-XTAL_CFPX-56 (Quartz Crystal, size CFPX-56, body 6x1.8mm)
pins: 1 OSC1, 2 OSC2


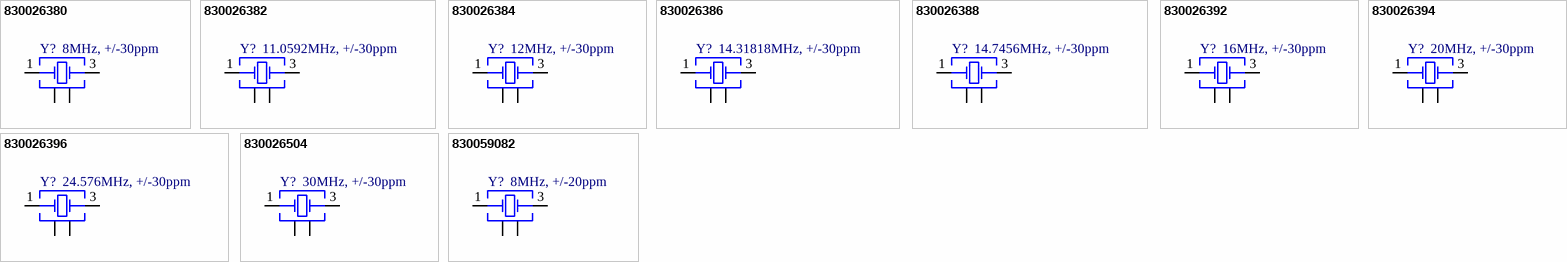
[diagram p8: symbols 830026380 to 830059082]

## 830026380
designator Y?, comment 8MHz, +/-30ppm
WE-XTAL Quartz Crystal, SMT, 12SMX, 8MHz, +/-30ppm; Part Number: 830026380; Frequency Stability: +/-50ppm; Load Capacitance: 16pF; ComponentLink1Description: Manufacturer; ComponentLink1URL: http://www.we-online.de; ComponentLink2Description: Datasheet; ComponentLink2URL: https://katalog.we-online.com/pbs/datasheet/830026380.pdf; Operating Temperature: -20 to +70degC; Packaging: Tape and Reel; Published Date: November 2019; Size: 12SMX; Frequency: 8MHz; Frequency Tolerance: +/-30ppm; Mounting Technology: SMT; Publisher: Wurth Elektronik
footprint WE-XTAL_12SMX (Quartz Crystal, size 12SMX, body 7.5x5.2mm)
pins: 1 Crystal, 2 GND & Lid, 3 Crystal, 4 GND & Lid

## 830026382
designator Y?, comment 11.0592MHz, +/-30ppm
WE-XTAL Quartz Crystal, SMT, 12SMX, 11.0592MHz, +/-30ppm; Part Number: 830026382; Frequency Stability: +/-50ppm; Load Capacitance: 16pF; ComponentLink1Description: Manufacturer; ComponentLink1URL: http://www.we-online.de; ComponentLink2Description: Datasheet; ComponentLink2URL: https://katalog.we-online.com/pbs/datasheet/830026382.pdf; Operating Temperature: -20 to +70degC; Packaging: Tape and Reel; Published Date: November 2019; Size: 12SMX; Frequency: 11.0592MHz; Frequency Tolerance: +/-30ppm; Mounting Technology: SMT; Publisher: Wurth Elektronik
footprint WE-XTAL_12SMX
pins: 1 Crystal, 2 GND & Lid, 3 Crystal, 4 GND & Lid

## 830026384
designator Y?, comment 12MHz, +/-30ppm
WE-XTAL Quartz Crystal, SMT, 12SMX, 12MHz, +/-30ppm; Part Number: 830026384; Frequency Stability: +/-50ppm; Load Capacitance: 16pF; ComponentLink1Description: Manufacturer; ComponentLink1URL: http://www.we-online.de; ComponentLink2Description: Datasheet; ComponentLink2URL: https://katalog.we-online.com/pbs/datasheet/830026384.pdf; Operating Temperature: -20 to +70degC; Packaging: Tape and Reel; Published Date: November 2019; Size: 12SMX; Frequency: 12MHz; Frequency Tolerance: +/-30ppm; Mounting Technology: SMT; Publisher: Wurth Elektronik
footprint WE-XTAL_12SMX
pins: 1 Crystal, 2 GND & Lid, 3 Crystal, 4 GND & Lid

## 830026386
designator Y?, comment 14.31818MHz, +/-30ppm
WE-XTAL Quartz Crystal, SMT, 12SMX, 14.31818MHz, +/-30ppm; Part Number: 830026386; Frequency Stability: +/-50ppm; Load Capacitance: 16pF; ComponentLink1Description: Manufacturer; ComponentLink1URL: http://www.we-online.de; ComponentLink2Description: Datasheet; ComponentLink2URL: https://katalog.we-online.com/pbs/datasheet/830026386.pdf; Operating Temperature: -20 to +70degC; Packaging: Tape and Reel; Published Date: November 2019; Size: 12SMX; Frequency: 14.31818MHz; Frequency Tolerance: +/-30ppm; Mounting Technology: SMT; Publisher: Wurth Elektronik
footprint WE-XTAL_12SMX
pins: 1 Crystal, 2 GND & Lid, 3 Crystal, 4 GND & Lid

## 830026388
designator Y?, comment 14.7456MHz, +/-30ppm
WE-XTAL Quartz Crystal, SMT, 12SMX, 14.7456MHz, +/-30ppm; Part Number: 830026388; Frequency Stability: +/-50ppm; Load Capacitance: 16pF; ComponentLink1Description: Manufacturer; ComponentLink1URL: http://www.we-online.de; ComponentLink2Description: Datasheet; ComponentLink2URL: https://katalog.we-online.com/pbs/datasheet/830026388.pdf; Operating Temperature: -20 to +70degC; Packaging: Tape and Reel; Published Date: November 2019; Size: 12SMX; Frequency: 14.7456MHz; Frequency Tolerance: +/-30ppm; Mounting Technology: SMT; Publisher: Wurth Elektronik
footprint WE-XTAL_12SMX
pins: 1 Crystal, 2 GND & Lid, 3 Crystal, 4 GND & Lid

## 830026392
designator Y?, comment 16MHz, +/-30ppm
WE-XTAL Quartz Crystal, SMT, 12SMX, 16MHz, +/-30ppm; Part Number: 830026392; Frequency Stability: +/-50ppm; Load Capacitance: 16pF; ComponentLink1Description: Manufacturer; ComponentLink1URL: http://www.we-online.de; ComponentLink2Description: Datasheet; ComponentLink2URL: https://katalog.we-online.com/pbs/datasheet/830026392.pdf; Operating Temperature: -20 to +70degC; Packaging: Tape and Reel; Published Date: November 2019; Size: 12SMX; Frequency: 16MHz; Frequency Tolerance: +/-30ppm; Mounting Technology: SMT; Publisher: Wurth Elektronik
footprint WE-XTAL_12SMX
pins: 1 Crystal, 2 GND & Lid, 3 Crystal, 4 GND & Lid

## 830026394
designator Y?, comment 20MHz, +/-30ppm
WE-XTAL Quartz Crystal, SMT, 12SMX, 20MHz, +/-30ppm; Part Number: 830026394; Frequency Stability: +/-50ppm; Load Capacitance: 16pF; ComponentLink1Description: Manufacturer; ComponentLink1URL: http://www.we-online.de; ComponentLink2Description: Datasheet; ComponentLink2URL: https://katalog.we-online.com/pbs/datasheet/830026394.pdf; Operating Temperature: -20 to +70degC; Packaging: Tape and Reel; Published Date: November 2019; Size: 12SMX; Frequency: 20MHz; Frequency Tolerance: +/-30ppm; Mounting Technology: SMT; Publisher: Wurth Elektronik
footprint WE-XTAL_12SMX
pins: 1 Crystal, 2 GND & Lid, 3 Crystal, 4 GND & Lid

## 830026396
designator Y?, comment 24.576MHz, +/-30ppm
WE-XTAL Quartz Crystal, SMT, 12SMX, 24.576MHz, +/-30ppm; Part Number: 830026396; Frequency Stability: +/-50ppm; Load Capacitance: 16pF; ComponentLink1Description: Manufacturer; ComponentLink1URL: http://www.we-online.de; ComponentLink2Description: Datasheet; ComponentLink2URL: https://katalog.we-online.com/pbs/datasheet/830026396.pdf; Operating Temperature: -20 to +70degC; Packaging: Tape and Reel; Published Date: November 2019; Size: 12SMX; Frequency: 24.576MHz; Frequency Tolerance: +/-30ppm; Mounting Technology: SMT; Publisher: Wurth Elektronik
footprint WE-XTAL_12SMX
pins: 1 Crystal, 2 GND & Lid, 3 Crystal, 4 GND & Lid

## 830026504
designator Y?, comment 30MHz, +/-30ppm
WE-XTAL Quartz Crystal, SMT, 12SMX, 30MHz, +/-30ppm; Part Number: 830026504; Frequency Stability: +/-50ppm; Load Capacitance: 16pF; ComponentLink1Description: Manufacturer; ComponentLink1URL: http://www.we-online.de; ComponentLink2Description: Datasheet; ComponentLink2URL: https://katalog.we-online.com/pbs/datasheet/830026504.pdf; Operating Temperature: -20 to +70degC; Packaging: Tape and Reel; Published Date: November 2019; Size: 12SMX; Frequency: 30MHz; Frequency Tolerance: +/-30ppm; Mounting Technology: SMT; Publisher: Wurth Elektronik
footprint WE-XTAL_12SMX
pins: 1 Crystal, 2 GND & Lid, 3 Crystal, 4 GND & Lid

## 830059082
designator Y?, comment 8MHz, +/-20ppm
WE-XTAL Quartz Crystal, SMT, 12SMX, 8MHz, +/-20ppm; Part Number: 830059082; Frequency Stability: +/-50ppm; Load Capacitance: 10pF; ComponentLink1Description: Manufacturer; ComponentLink1URL: http://www.we-online.de; ComponentLink2Description: Datasheet; ComponentLink2URL: https://katalog.we-online.com/pbs/datasheet/830059082.pdf; Operating Temperature: -20 to +70degC; Packaging: Tape and Reel; Published Date: November 2019; Size: 12SMX; Frequency: 8MHz; Frequency Tolerance: +/-20ppm; Mounting Technology: SMT; Publisher: Wurth Elektronik
footprint WE-XTAL_12SMX
pins: 1 Crystal, 2 GND & Lid, 3 Crystal, 4 GND & Lid


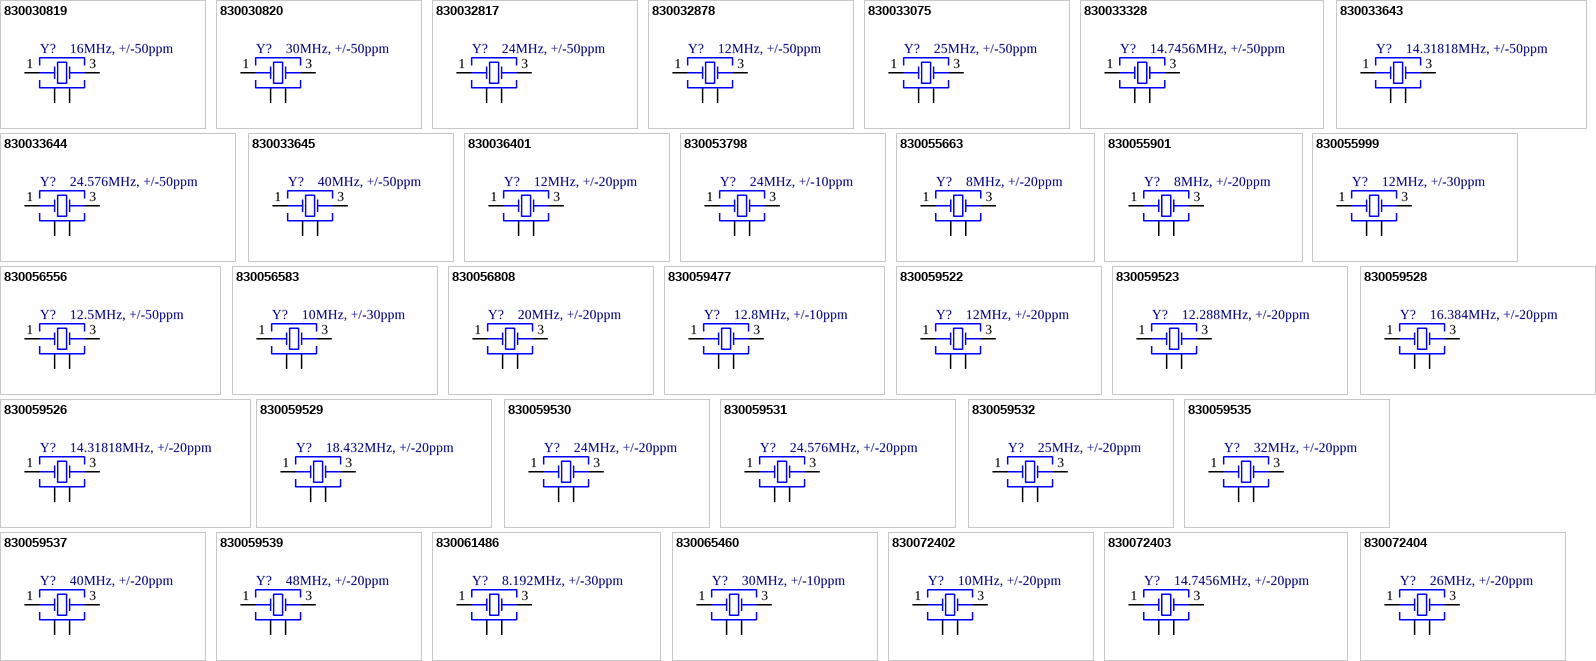
[diagram p9: symbols 830030819 to 830072404]

## 830030819
designator Y?, comment 16MHz, +/-50ppm
WE-XTAL Quartz Crystal, SMT, CFPX-104, 16MHz, +/-50ppm; Part Number: 830030819; Load Capacitance: 18pF; ComponentLink1Description: Manufacturer; ComponentLink1URL: http://www.we-online.de; ComponentLink2Description: Datasheet; ComponentLink2URL: https://katalog.we-online.com/pbs/datasheet/830030819.pdf; Operating Temperature: -10 to +60degC; Packaging: Tape and Reel; Published Date: November 2019; Size: CFPX-104; Frequency Stability: +/-50ppm; Frequency: 16MHz; Frequency Tolerance: +/-50ppm; Mounting Technology: SMT; Publisher: Wurth Elektronik
footprint WE-XTAL_CFPX-104
pins: 1 Crystal, 2 GND & Lid, 3 Crystal, 4 GND & Lid

## 830030820
designator Y?, comment 30MHz, +/-50ppm
WE-XTAL Quartz Crystal, SMT, CFPX-104, 30MHz, +/-50ppm; Part Number: 830030820; Load Capacitance: 18pF; ComponentLink1Description: Manufacturer; ComponentLink1URL: http://www.we-online.de; ComponentLink2Description: Datasheet; ComponentLink2URL: https://katalog.we-online.com/pbs/datasheet/830030820.pdf; Operating Temperature: -10 to +60degC; Packaging: Tape and Reel; Published Date: November 2019; Size: CFPX-104; Frequency Stability: +/-50ppm; Frequency: 30MHz; Frequency Tolerance: +/-50ppm; Mounting Technology: SMT; Publisher: Wurth Elektronik
footprint WE-XTAL_CFPX-104
pins: 1 Crystal, 2 GND & Lid, 3 Crystal, 4 GND & Lid

## 830032817
designator Y?, comment 24MHz, +/-50ppm
WE-XTAL Quartz Crystal, SMT, CFPX-104, 24MHz, +/-50ppm; Part Number: 830032817; Load Capacitance: 18pF; ComponentLink1Description: Manufacturer; ComponentLink1URL: http://www.we-online.de; ComponentLink2Description: Datasheet; ComponentLink2URL: https://katalog.we-online.com/pbs/datasheet/830032817.pdf; Operating Temperature: -10 to +60degC; Packaging: Tape and Reel; Published Date: November 2019; Size: CFPX-104; Frequency Stability: +/-50ppm; Frequency: 24MHz; Frequency Tolerance: +/-50ppm; Mounting Technology: SMT; Publisher: Wurth Elektronik
footprint WE-XTAL_CFPX-104
pins: 1 Crystal, 2 GND & Lid, 3 Crystal, 4 GND & Lid

## 830032878
designator Y?, comment 12MHz, +/-50ppm
WE-XTAL Quartz Crystal, SMT, CFPX-104, 12MHz, +/-50ppm; Part Number: 830032878; Load Capacitance: 18pF; ComponentLink1Description: Manufacturer; ComponentLink1URL: http://www.we-online.de; ComponentLink2Description: Datasheet; ComponentLink2URL: https://katalog.we-online.com/pbs/datasheet/830032878.pdf; Operating Temperature: -10 to +60degC; Packaging: Tape and Reel; Published Date: November 2019; Size: CFPX-104; Frequency Stability: +/-50ppm; Frequency: 12MHz; Frequency Tolerance: +/-50ppm; Mounting Technology: SMT; Publisher: Wurth Elektronik
footprint WE-XTAL_CFPX-104
pins: 1 Crystal, 2 GND & Lid, 3 Crystal, 4 GND & Lid

## 830033075
designator Y?, comment 25MHz, +/-50ppm
WE-XTAL Quartz Crystal, SMT, CFPX-104, 25MHz, +/-50ppm; Part Number: 830033075; Load Capacitance: 18pF; ComponentLink1Description: Manufacturer; ComponentLink1URL: http://www.we-online.de; ComponentLink2Description: Datasheet; ComponentLink2URL: https://katalog.we-online.com/pbs/datasheet/830033075.pdf; Operating Temperature: -10 to +60degC; Packaging: Tape and Reel; Published Date: November 2019; Size: CFPX-104; Frequency Stability: +/-50ppm; Frequency: 25MHz; Frequency Tolerance: +/-50ppm; Mounting Technology: SMT; Publisher: Wurth Elektronik
footprint WE-XTAL_CFPX-104
pins: 1 Crystal, 2 GND & Lid, 3 Crystal, 4 GND & Lid

## 830033328
designator Y?, comment 14.7456MHz, +/-50ppm
WE-XTAL Quartz Crystal, SMT, CFPX-104, 14.7456MHz, +/-50ppm; Part Number: 830033328; Load Capacitance: 18pF; ComponentLink1Description: Manufacturer; ComponentLink1URL: http://www.we-online.de; ComponentLink2Description: Datasheet; ComponentLink2URL: https://katalog.we-online.com/pbs/datasheet/830033328.pdf; Operating Temperature: -10 to +60degC; Packaging: Tape and Reel; Published Date: November 2019; Size: CFPX-104; Frequency Stability: +/-50ppm; Frequency: 14.7456MHz; Frequency Tolerance: +/-50ppm; Mounting Technology: SMT; Publisher: Wurth Elektronik
footprint WE-XTAL_CFPX-104
pins: 1 Crystal, 2 GND & Lid, 3 Crystal, 4 GND & Lid

## 830033643
designator Y?, comment 14.31818MHz, +/-50ppm
WE-XTAL Quartz Crystal, SMT, CFPX-104, 14.31818MHz, +/-50ppm; Part Number: 830033643; Load Capacitance: 18pF; ComponentLink1Description: Manufacturer; ComponentLink1URL: http://www.we-online.de; ComponentLink2Description: Datasheet; ComponentLink2URL: https://katalog.we-online.com/pbs/datasheet/830033643.pdf; Operating Temperature: -10 to +60degC; Packaging: Tape and Reel; Published Date: November 2019; Size: CFPX-104; Frequency Stability: +/-50ppm; Frequency: 14.31818MHz; Frequency Tolerance: +/-50ppm; Mounting Technology: SMT; Publisher: Wurth Elektronik
footprint WE-XTAL_CFPX-104
pins: 1 Crystal, 2 GND & Lid, 3 Crystal, 4 GND & Lid